# EAGLE library part I6A24014A033V-001 (library skipzone)
TDK-Lambda i6A Series DC/DC Power Module 9-40V input; 14A, 250W output 1/16th brick feature set 001: negative-logic on/off
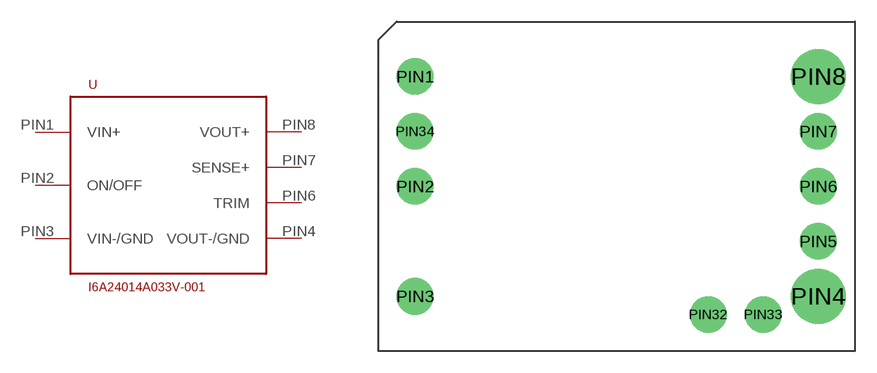
[diagram p0: symbol with the pads of 16TH-BRICK-POWER-MODULE; footprint 16TH-BRICK-POWER-MODULE]

Designator prefix -

## I6A24014A033V-001 (VALUE: I6A24014A033V-001)  [16TH-BRICK-POWER-MODULE]
PIN1  VIN+
PIN2  ON/OFF
PIN3  VIN-/GND
PIN4  VOUT-/GND
PIN6  TRIM
PIN7  SENSE+
PIN8  VOUT+

## Footprint 16TH-BRICK-POWER-MODULE (pad centres in mm)
TDK i6A Series - 1/16th Brick Power Module
drill 1.1 pad 2.54: PIN1 -13.97,7.62; PIN2 -13.97,0; PIN3 -13.97,-7.62; PIN5 13.97,-3.81; PIN6 13.97,0; PIN7 13.97,3.81; PIN32 6.35,-8.89; PIN33 10.16,-8.89; PIN34 -13.97,3.81
drill 1.6 pad 3.81: PIN4 13.97,-7.62; PIN8 13.97,7.62